# Altium footprint library DPAK_M.PcbLib: 40 footprints (part 1 of 3)
Each footprint in its own frame and in the unit in brackets; x right, y up, seen from the top. Pads: shape width x height; smd on the part's side, far side on the other; paste and mask are expansions set on the pad; w line width, h text height; cw(c..) or ccw(c..) is an arc to the next point about the centre after c.
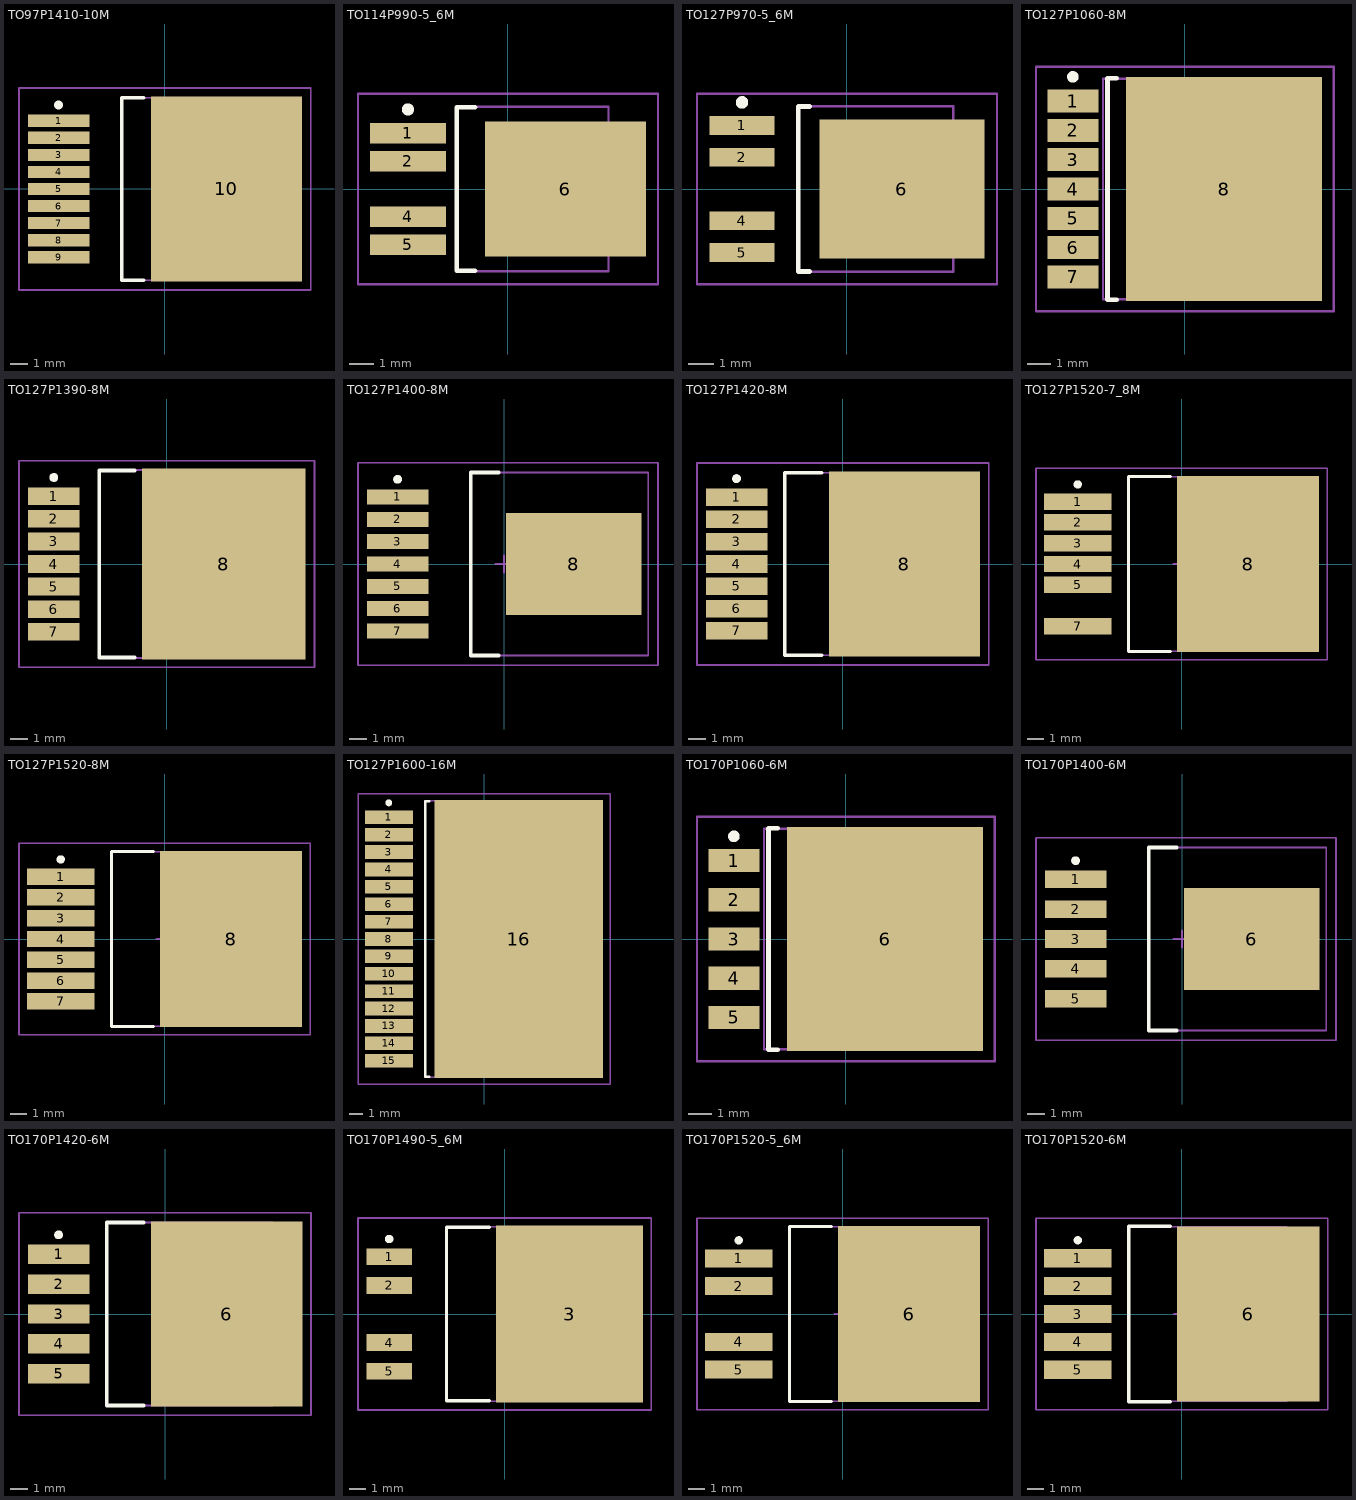
[diagram p0: the footprints below, top view; thin cyan lines are the x and y axes]

## TO97P1410-10M [mm] "D2-PAK, 10-Leads, Body 8.7x10.2mm, Pitch 0.97mm, Lead Span 14.1mm, IPC Low Density"
height 4.62
pads (10):
  rect 3.5x0.7 smd: 1(-6.05,3.88) 2(-6.05,2.91) 3(-6.05,1.94) 4(-6.05,0.97) 5(-6.05,0) 6(-6.05,-0.97) 7(-6.05,-1.94) 8(-6.05,-2.91) 9(-6.05,-3.88)
  rect 8.6x10.55 smd: 10(3.5,0)
Top Overlay:
  circle w0.25: c-6.05,4.78 r0.125
  lines w0.2: -1.2,-5.2 -2.45,-5.2 -2.45,5.2 -1.2,5.2
Mechanical 13:
  lines w0.1: -2.45,-5.2 6.29,-5.2 6.29,5.2 -2.45,5.2 -2.45,-5.2
Mechanical 15:
  lines w0.1: -0.5,0 0.5,0 ; 0,-0.5 0,0.5 ; -8.3,-5.75 8.3,-5.75 8.3,5.75 -8.3,5.75 -8.3,-5.75
3D body: height 4.62, standoff 0, extent -2.45,-5.2 6.29,5.2

## TO114P990-5_6M [mm] "D-PAK, 6-Leads, Body 6.1x6.5mm, Pitch 1.14mm, Lead Span 9.9mm, IPC Low Density"
height 2.39
pads (5):
  rect 3.1x0.85 smd: 1(-4.1,2.286) 2(-4.1,1.143) 4(-4.1,-1.143) 5(-4.1,-2.286)
  rect 6.6x5.55 smd: 6(2.35,0)
Top Overlay:
  circle w0.25: c-4.1,3.261 r0.125
  lines w0.2: -1.35,-3.35 -2.1,-3.35 -2.1,3.35 -1.35,3.35
Mechanical 13:
  lines w0.1: -2.1,-3.375 -2.1,3.375 4.12,3.375 4.12,-3.375 -2.1,-3.375
Mechanical 15:
  lines w0.1: -0.5,0 0.5,0 ; 0,-0.5 0,0.5 ; -6.15,-3.9 -6.15,3.9 6.15,3.9 6.15,-3.9 -6.15,-3.9
3D body: height 2.39, standoff 0, extent -2.1,-3.375 4.12,3.375

## TO127P970-5_6M [mm] "D-PAK, 6-Leads, Body 6.1x6.5mm, Pitch 1.27mm, Lead Span 9.7mm, IPC Low Density"
height 2.4
pads (5):
  rect 2.6x0.75 smd: 1(-4.2,2.54) 2(-4.2,1.27) 4(-4.2,-1.27) 5(-4.2,-2.54)
  rect 6.6x5.55 smd: 6(2.2,0)
Top Overlay:
  circle w0.25: c-4.2,3.465 r0.125
  lines w0.2: -1.5,-3.3 -1.95,-3.3 -1.95,3.3 -1.5,3.3
Mechanical 13:
  lines w0.1: -1.95,-3.3 4.25,-3.3 4.25,3.3 -1.95,3.3 -1.95,-3.3
Mechanical 15:
  lines w0.1: -0.5,0 0.5,0 ; 0,-0.5 0,0.5 ; -6,-3.8 6,-3.8 6,3.8 -6,3.8 -6,-3.8
3D body: height 2.4, standoff 0, extent -1.95,-3.3 4.25,3.3

## TO127P1060-8M [mm] "D-PAK, 8-Leads, Body 8x9.4mm, Pitch 1.27mm, Lead Span 10.6mm, IPC Low Density"
height 2.05
pads (8):
  rect 2.2x1 smd: 1(-4.85,3.81) 2(-4.85,2.54) 3(-4.85,1.27) 4(-4.85,0) 5(-4.85,-1.27) 6(-4.85,-2.54) 7(-4.85,-3.81)
  rect 8.5x9.7 smd: 8(1.7,0)
Top Overlay:
  circle w0.25: c-4.85,4.86 r0.125
  lines w0.2: -2.95,-4.8 -3.35,-4.8 -3.35,4.8 -2.95,4.8
Mechanical 13:
  lines w0.1: -3.55,-4.775 -3.55,4.775 4.6,4.775 4.6,-4.775 -3.55,-4.775
Mechanical 15:
  lines w0.1: -0.5,0 0.5,0 ; 0,-0.5 0,0.5 ; -6.45,-5.3 -6.45,5.3 6.45,5.3 6.45,-5.3 -6.45,-5.3
3D body: height 2.05, standoff 0, extent -3.55,-4.775 4.6,4.775

## TO127P1390-8M [mm] "D2-PAK, 8-Leads, Body 8.9x10.2mm, Pitch 1.27mm, Lead Span 13.9mm, IPC Low Density"
height 4.57
pads (8):
  rect 2.9x1 smd: 1(-6.35,3.81) 2(-6.35,2.54) 3(-6.35,1.27) 4(-6.35,0) 5(-6.35,-1.27) 6(-6.35,-2.54) 7(-6.35,-3.81)
  rect 9.2x10.7 smd: 8(3.2,0)
Top Overlay:
  circle w0.25: c-6.35,4.86 r0.125
  lines w0.2: -1.8,-5.25 -3.8,-5.25 -3.8,5.25 -1.8,5.25
Mechanical 13:
  lines w0.1: -3.8,-5.275 -3.8,5.275 5.6,5.275 5.6,-5.275 -3.8,-5.275
Mechanical 15:
  lines w0.1: -0.5,0 0.5,0 ; 0,-0.5 0,0.5 ; -8.3,-5.8 -8.3,5.8 8.3,5.8 8.3,-5.8 -8.3,-5.8
3D body: height 4.57, standoff 0, extent -3.8,-5.275 5.6,5.275

## TO127P1400-8M [mm] "D2-PAK, 8-Leads, Body 9.9x10.2mm, Pitch 1.27mm, Lead Span 14mm, IPC Low Density"
height 2.1
pads (8):
  rect 3.5x0.85 smd: 1(-6.05,3.81) 2(-6.05,2.54) 3(-6.05,1.27) 4(-6.05,0) 5(-6.05,-1.27) 6(-6.05,-2.54) 7(-6.05,-3.81)
  rect 7.7x5.8 smd: 8(3.95,0)
Top Overlay:
  circle w0.25: c-6.05,4.815 r0.125
  lines w0.2: -0.3,-5.2 -1.9,-5.2 -1.9,5.2 -0.3,5.2
Mechanical 13:
  lines w0.1: -1.9,-5.2 8.2,-5.2 8.2,5.2 -1.9,5.2 -1.9,-5.2
Mechanical 15:
  lines w0.1: -0.5,0 0.5,0 ; 0,-0.5 0,0.5 ; -8.3,-5.75 8.75,-5.75 8.75,5.75 -8.3,5.75 -8.3,-5.75
3D body: height 2.1, standoff 0, extent -1.899,-5.199 8.199,5.199

## TO127P1420-8M [mm] "D2-PAK, 8-Leads, Body 8.9x10.1mm, Pitch 1.27mm, Lead Span 14.2mm, IPC Low Density"
height 4.65
pads (8):
  rect 3.5x1 smd: 1(-6.05,3.81) 2(-6.05,2.54) 3(-6.05,1.27) 4(-6.05,0) 5(-6.05,-1.27) 6(-6.05,-2.54) 7(-6.05,-3.81)
  rect 8.6x10.55 smd: 8(3.5,0)
Top Overlay:
  circle w0.25: c-6.05,4.86 r0.125
  lines w0.2: -1.2,-5.2 -3.3,-5.2 -3.3,5.2 -1.2,5.2
Mechanical 13:
  lines w0.1: -3.3,-5.2 -3.3,5.2 6.1,5.2 6.1,-5.2 -3.3,-5.2
Mechanical 15:
  lines w0.1: -0.5,0 0.5,0 ; 0,-0.5 0,0.5 ; -8.3,-5.75 -8.3,5.75 8.3,5.75 8.3,-5.75 -8.3,-5.75
3D body: height 4.65, standoff 0, extent -3.3,-5.2 6.1,5.2

## TO127P1520-7_8M [mm] "D2-PAK, 8-Leads, Body 9x10.2mm, Pitch 1.27mm, Lead Span 15.2mm, IPC Low Density"
height 4.83
pads (7):
  rect 4.1x1 smd: 1(-6.35,3.81) 2(-6.35,2.54) 3(-6.35,1.27) 4(-6.35,0) 5(-6.35,-1.27) 7(-6.35,-3.81)
  rect 8.7x10.75 smd: 8(4.05,0)
Top Overlay:
  circle w0.25: c-6.35,4.86 r0.125
  lines w0.2: -0.7,-5.35 -3.25,-5.35 -3.25,5.35 -0.7,5.35
Mechanical 13:
  lines w0.1: -3.25,-5.325 6.4,-5.325 6.4,5.325 -3.25,5.325 -3.25,-5.325
Mechanical 15:
  lines w0.1: -0.5,0 0.5,0 ; 0,-0.5 0,0.5 ; -8.9,-5.85 8.9,-5.85 8.9,5.85 -8.9,5.85 -8.9,-5.85
3D body: height 4.83, standoff 0, extent -3.25,-5.325 6.4,5.325

## TO127P1520-8M [mm] "D2-PAK, 8-Leads, Body 9x10.2mm, Pitch 1.27mm, Lead Span 15.2mm, IPC Low Density"
height 4.83
pads (8):
  rect 4.1x1 smd: 1(-6.35,3.81) 2(-6.35,2.54) 3(-6.35,1.27) 4(-6.35,0) 5(-6.35,-1.27) 6(-6.35,-2.54) 7(-6.35,-3.81)
  rect 8.7x10.75 smd: 8(4.05,0)
Top Overlay:
  circle w0.25: c-6.35,4.86 r0.125
  lines w0.2: -0.7,-5.35 -3.25,-5.35 -3.25,5.35 -0.7,5.35
Mechanical 13:
  lines w0.1: -3.25,-5.325 6.4,-5.325 6.4,5.325 -3.25,5.325 -3.25,-5.325
Mechanical 15:
  lines w0.1: -0.5,0 0.5,0 ; 0,-0.5 0,0.5 ; -8.9,-5.85 8.9,-5.85 8.9,5.85 -8.9,5.85 -8.9,-5.85
3D body: height 4.83, standoff 0, extent -3.25,-5.325 6.4,5.325

## TO127P1600-16M [mm] "TO, 16-Leads, Body 10.7x20mm, Pitch 1.27mm, Lead Span 16mm, IPC Low Density"
height 4.65
pads (16):
  rect 3.5x1 smd: 1(-6.95,8.89) 2(-6.95,7.62) 3(-6.95,6.35) 4(-6.95,5.08) 5(-6.95,3.81) 6(-6.95,2.54) 7(-6.95,1.27) 8(-6.95,0) 9(-6.95,-1.27) 10(-6.95,-2.54) 11(-6.95,-3.81) 12(-6.95,-5.08) 13(-6.95,-6.35) 14(-6.95,-7.62) 15(-6.95,-8.89)
  rect 12.3x20.3 smd: 16(2.55,0)
Top Overlay:
  circle w0.25: c-6.95,9.94 r0.125
  lines w0.2: -4,-10.05 -4.3,-10.05 -4.3,10.05 -4,10.05
Mechanical 13:
  lines w0.1: -4.3,-10.075 -4.3,10.075 6.52,10.075 6.52,-10.075 -4.3,-10.075
Mechanical 15:
  lines w0.1: -0.5,0 0.5,0 ; 0,-0.5 0,0.5 ; -9.2,-10.6 -9.2,10.6 9.2,10.6 9.2,-10.6 -9.2,-10.6
3D body: height 4.65, standoff 0, extent -4.3,-10.075 6.52,10.075

## TO170P1060-6M [mm] "D-PAK, 6-Leads, Body 8x9.4mm, Pitch 1.7mm, Lead Span 10.6mm, IPC Low Density"
height 2.05
pads (6):
  rect 2.2x1 smd: 1(-4.85,3.4) 2(-4.85,1.7) 3(-4.85,0) 4(-4.85,-1.7) 5(-4.85,-3.4)
  rect 8.5x9.7 smd: 6(1.7,0)
Top Overlay:
  circle w0.25: c-4.85,4.45 r0.125
  lines w0.2: -2.95,-4.8 -3.35,-4.8 -3.35,4.8 -2.95,4.8
Mechanical 13:
  lines w0.1: -3.55,-4.775 -3.55,4.775 4.6,4.775 4.6,-4.775 -3.55,-4.775
Mechanical 15:
  lines w0.1: -0.5,0 0.5,0 ; 0,-0.5 0,0.5 ; -6.45,-5.3 -6.45,5.3 6.45,5.3 6.45,-5.3 -6.45,-5.3
3D body: height 2.05, standoff 0, extent -3.55,-4.775 4.6,4.775

## TO170P1400-6M [mm] "D2-PAK, 6-Leads, Body 9.9x10.2mm, Pitch 1.7mm, Lead Span 14mm, IPC Low Density"
height 2.1
pads (6):
  rect 3.5x1 smd: 1(-6.05,3.4) 2(-6.05,1.7) 3(-6.05,0) 4(-6.05,-1.7) 5(-6.05,-3.4)
  rect 7.7x5.8 smd: 6(3.95,0)
Top Overlay:
  circle w0.25: c-6.05,4.45 r0.125
  lines w0.2: -0.3,-5.2 -1.9,-5.2 -1.9,5.2 -0.3,5.2
Mechanical 13:
  lines w0.1: -1.9,-5.2 8.2,-5.2 8.2,5.2 -1.9,5.2 -1.9,-5.2
Mechanical 15:
  lines w0.1: -0.5,0 0.5,0 ; 0,-0.5 0,0.5 ; -8.3,-5.75 8.75,-5.75 8.75,5.75 -8.3,5.75 -8.3,-5.75
3D body: height 2.1, standoff 0, extent -1.899,-5.199 8.199,5.199

## TO170P1420-6M [mm] "D2-PAK, 6-Leads, Body 8.9x10.1mm, Pitch 1.7mm, Lead Span 14.2mm, IPC Low Density"
height 4.65
pads (6):
  rect 3.5x1.1 smd: 1(-6.05,3.4) 2(-6.05,1.7) 3(-6.05,0) 4(-6.05,-1.7) 5(-6.05,-3.4)
  rect 8.6x10.5 smd: 6(3.5,0)
Top Overlay:
  circle w0.25: c-6.05,4.5 r0.125
  lines w0.2: -1.2,-5.2 -3.3,-5.2 -3.3,5.2 -1.2,5.2
Mechanical 13:
  lines w0.1: -3.3,-5.2 6.1,-5.2 6.1,5.2 -3.3,5.2 -3.3,-5.2
Mechanical 15:
  lines w0.1: -0.5,0 0.5,0 ; 0,-0.5 0,0.5 ; -8.3,-5.75 8.3,-5.75 8.3,5.75 -8.3,5.75 -8.3,-5.75
3D body: height 4.65, standoff 0, extent -3.3,-5.2 6.1,5.2

## TO170P1490-5_6M [mm] "D2-PAK, 6-Leads, Body 9.1x10.3mm, Pitch 1.7mm, Lead Span 14.9mm, IPC Low Density"
height 4.55
pads (5):
  rect 2.7x1 smd: 1(-6.85,3.4) 2(-6.85,1.7) 4(-6.85,-1.7) 5(-6.85,-3.4)
  rect 8.7x10.5 smd: 3(3.85,0)
Top Overlay:
  circle w0.25: c-6.85,4.45 r0.125
  lines w0.2: -0.9,-5.15 -3.45,-5.15 -3.45,5.15 -0.9,5.15
Mechanical 13:
  lines w0.1: -3.45,-5.175 -3.45,5.175 6.2,5.175 6.2,-5.175 -3.45,-5.175
Mechanical 15:
  lines w0.1: -0.5,0 0.5,0 ; 0,-0.5 0,0.5 ; -8.7,-5.7 -8.7,5.7 8.7,5.7 8.7,-5.7 -8.7,-5.7
3D body: height 4.55, standoff 0, extent -3.45,-5.175 6.2,5.175

## TO170P1520-5_6M [mm] "D2-PAK, 6-Leads, Body 9x10.2mm, Pitch 1.7mm, Lead Span 15.2mm, IPC Low Density"
height 4.83
pads (5):
  rect 4.1x1.1 smd: 1(-6.35,3.4) 2(-6.35,1.7) 4(-6.35,-1.7) 5(-6.35,-3.4)
  rect 8.7x10.75 smd: 6(4.05,0)
Top Overlay:
  circle w0.25: c-6.35,4.5 r0.125
  lines w0.2: -0.7,-5.35 -3.25,-5.35 -3.25,5.35 -0.7,5.35
Mechanical 13:
  lines w0.1: -3.25,-5.325 -3.25,5.325 6.4,5.325 6.4,-5.325 -3.25,-5.325
Mechanical 15:
  lines w0.1: -0.5,0 0.5,0 ; 0,-0.5 0,0.5 ; -8.9,-5.85 -8.9,5.85 8.9,5.85 8.9,-5.85 -8.9,-5.85
3D body: height 4.83, standoff 0, extent -3.25,-5.325 6.4,5.325

## TO170P1520-6M [mm] "D2-PAK, 6-Leads, Body 9x10.2mm, Pitch 1.7mm, Lead Span 15.2mm, IPC Low Density"
height 4.83
pads (6):
  rect 4.1x1.1 smd: 1(-6.35,3.4) 2(-6.35,1.7) 3(-6.35,0) 4(-6.35,-1.7) 5(-6.35,-3.4)
  rect 8.7x10.7 smd: 6(4.05,0)
Top Overlay:
  circle w0.25: c-6.35,4.5 r0.125
  lines w0.2: -0.7,-5.35 -3.25,-5.35 -3.25,5.35 -0.7,5.35
Mechanical 13:
  lines w0.1: -3.25,-5.325 -3.25,5.325 6.4,5.325 6.4,-5.325 -3.25,-5.325
Mechanical 15:
  lines w0.1: -0.5,0 0.5,0 ; 0,-0.5 0,0.5 ; -8.9,-5.85 -8.9,5.85 8.9,5.85 8.9,-5.85 -8.9,-5.85
3D body: height 4.83, standoff 0, extent -3.25,-5.325 6.4,5.325